# EAGLE library part MC100EP445FAG (library ON Semiconductor_By_element14_Batch_1)
ECL 8-Bit Serial/Parallel Converter
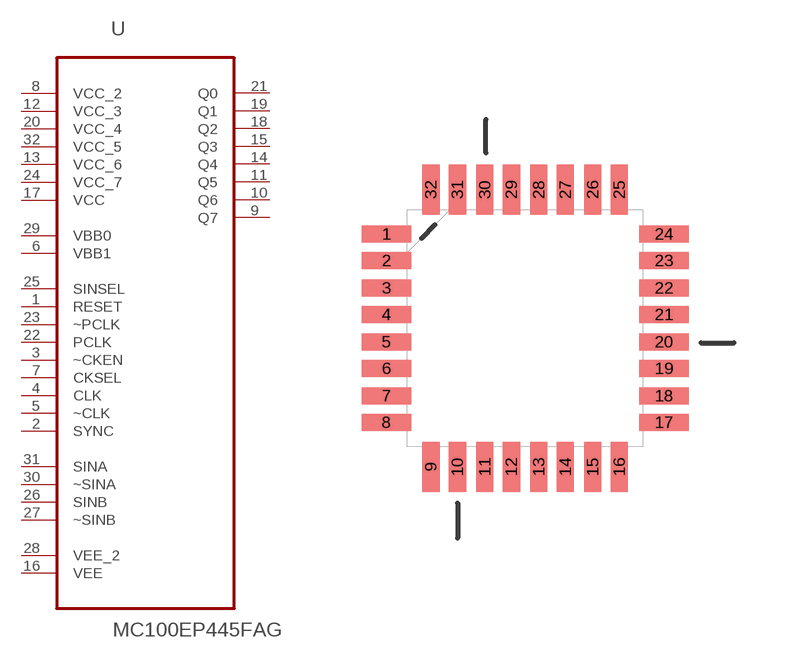
[diagram p119: symbol with the pads of QFP80P900X900X160-32N; footprint QFP80P900X900X160-32N]

Designator prefix U

## MC100EP445FAG (MPN: MC100EP445FAG; OC_FARNELL: 1260025; OC_NEWARK: 26K3865; P1I: o; PACKAGE: LQFP-32; SUPPLIER: ON SEMICONDUCTOR)  [QFP80P900X900X160-32N]
1  RESET  in
2  SYNC  in
3  ~CKEN  in
4  CLK  in
5  ~CLK  in
6  VBB1  out
7  CKSEL  in
8  VCC_2  pwr
9  Q7  out
10  Q6  out
11  Q5  out
12  VCC_3  pwr
13  VCC_6  pwr
14  Q4  out
15  Q3  out
16  VEE  pas
17  VCC  pwr
18  Q2  out
19  Q1  out
20  VCC_4  pwr
21  Q0  out
22  PCLK  out
23  ~PCLK  out
24  VCC_7  pwr
25  SINSEL  in
26  SINB  in
27  ~SINB  in
28  VEE_2  pas
29  VBB0  out
30  ~SINA  in
31  SINA  in
32  VCC_5  pwr

## Footprint QFP80P900X900X160-32N (pad centres in mm)
smd 1.473 x 0.508: 1 -4.115,2.794; 2 -4.115,2.007; 3 -4.115,1.194; 4 -4.115,0.406; 5 -4.115,-0.406; 6 -4.115,-1.194; 7 -4.115,-2.007; 8 -4.115,-2.794; 17 4.115,-2.794; 18 4.115,-2.007; 19 4.115,-1.194; 20 4.115,-0.406; 21 4.115,0.406; 22 4.115,1.194; 23 4.115,2.007; 24 4.115,2.794
smd 0.508 x 1.473: 9 -2.794,-4.115; 10 -2.007,-4.115; 11 -1.194,-4.115; 12 -0.406,-4.115; 13 0.406,-4.115; 14 1.194,-4.115; 15 2.007,-4.115; 16 2.794,-4.115; 25 2.794,4.115; 26 2.007,4.115; 27 1.194,4.115; 28 0.406,4.115; 29 -0.406,4.115; 30 -1.194,4.115; 31 -2.007,4.115; 32 -2.794,4.115